# EAGLE library part RN2483 (library RN2903)
LORA RN2483 MICROCHIP
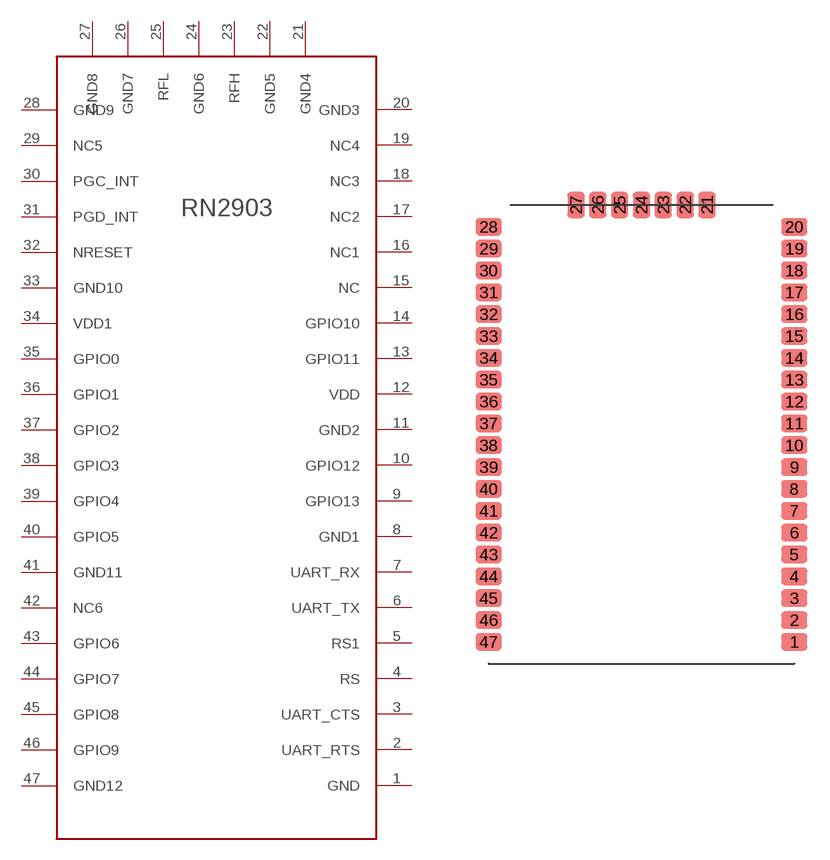
[diagram p0: symbol with the pads of MICROCHIP; footprint MICROCHIP]

Designator prefix -

## RN2483MICROCHIP  [MICROCHIP]
1  GND
2  UART_RTS
3  UART_CTS
4  RS
5  RS1
6  UART_TX
7  UART_RX
8  GND1
9  GPIO13
10  GPIO12
11  GND2
12  VDD
13  GPIO11
14  GPIO10
15  NC
16  NC1
17  NC2
18  NC3
19  NC4
20  GND3
21  GND4
22  GND5
23  RFH
24  GND6
25  RFL
26  GND7
27  GND8
28  GND9
29  NC5
30  PGC_INT
31  PGD_INT
32  NRESET
33  GND10
34  VDD1
35  GPIO0
36  GPIO1
37  GPIO2
38  GPIO3
39  GPIO4
40  GPIO5
41  GND11
42  NC6
43  GPIO6
44  GPIO7
45  GPIO8
46  GPIO9
47  GND12

## Footprint MICROCHIP (pad centres in mm)
LORA RN2483
smd 1.524 x 1.016: 1 0,1.27; 2 0,2.54; 3 0,3.81; 4 0,5.08; 5 0,6.35; 6 0,7.62; 7 0,8.89; 8 0,10.16; 9 0,11.43; 10 0,12.7; 11 0,13.97; 12 0,15.24; 13 0,16.51; 14 0,17.78; 15 0,19.05; 16 0,20.32; 17 0,21.59; 18 0,22.86; 19 0,24.13; 20 0,25.4; 28 -17.78,25.4; 29 -17.78,24.13; 30 -17.78,22.86; 31 -17.78,21.59; 32 -17.78,20.32; 33 -17.78,19.05; 34 -17.78,17.78; 35 -17.78,16.51; 36 -17.78,15.24; 37 -17.78,13.97; 38 -17.78,12.7; 39 -17.78,11.43; 40 -17.78,10.16; 41 -17.78,8.89; 42 -17.78,7.62; 43 -17.78,6.35; 44 -17.78,5.08; 45 -17.78,3.81; 46 -17.78,2.54; 47 -17.78,1.27
smd 1.016 x 1.524: 21 -5.08,26.67; 22 -6.35,26.67; 23 -7.62,26.67; 24 -8.89,26.67; 25 -10.16,26.67; 26 -11.43,26.67; 27 -12.7,26.67